# Altium schematic symbol library 555 Clocked LED.SchLib: 2 symbols
Pins are listed as number, name and electrical type; pins without a type are passive.

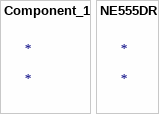
[diagram p0: symbols Component_1 to NE555DR]

## Component_1
designator *

## NE555DR
designator *
1 Func, BIPolar, PDSO8; Manufacturer: Texas Instruments; Manufacturer Part Number: NE555DR; Package Body Material: Plastic; Channels: 1; Power Supplies: 5/15V; Throw Configuration: PULSE; RECTANGULAR; Package Equivalence Code: SOP8,.25; Max Supply Voltage: 16V; Min Supply Voltage: 4.5V; Nominal Supply Voltage: 5V; Qualification Status: Not Qualified; Supplier: Mouser; Supplier Part Number: 595-NE555DR; RoHS: Yes; Category: Timers and Oscillators; Stock: 94728; Pricing: 1=0.44, 10=0.29, 50=0.29, 100=0.175, 1000=0.103, 10000=0.069 (USD); Case/Package: SOP; Pins: 8; Terminal Finish: Tin; Package Shape: Rectangular; Min Operating Temperature: 0°C; Max Operating Temperature: 70°C; JESD-609 Code: e3; Package Style: SMALL OUTLINEMeter; Surface Mount: Yes; Terminal Position: DUAL; Moisture Sensitivity Level: 1; Terminal Form: Gull Wing; JESD-30 Code: R-PDSO-G8; Peak Reflow Temperature (Cel): 260°C; Technology: BIPOLAR; Length: 4.9mm; Width: 3.9mm; Terminal Pitch: 1.27mm; Height - Seated (Max): 1.75mm; Reach SVHC Compliant: Yes; RoHS Compliant: Yes; Temperature Grade: COMMERCIAL; ComponentLink1URL: https://www.ti.com:443/lit/ds/symlink/na555.pdf?src-supplier=IHS+Markit; ComponentLink1Description: https://www.ti.com:443/lit/ds/symlink/na555.pdf?src-supplier=IHS+Markit